# Altium schematic symbol library VLS6045EX-6R8M.SchLib: 1 symbol
Pins are listed as number, name and electrical type; pins without a type are passive.

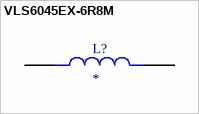
[diagram p0: symbol VLS6045EX-6R8M]

## VLS6045EX-6R8M
designator L?
Inductor Power Shielded Wirewound 6.8uH 20% 100KHz Ferrite 3.6A 0.0468Ohm DCR 2424 T/R; Manufacturer Lifecycle Status: PRODUCTION; MF: TDK; MP: VLS6045EX-6R8M; Current Rating: 4.7A; DC Resistance (DCR): 47mΩ; Number of Circuits: 1; Shielding: Yes; SnapEDA_Link: https://www.snapeda.com/parts/VLS6045EX-6R8M/TDK/view-part/?ref=snap; Package: NON STANDARD-2 TDK; Value: *; Check_prices: https://www.snapeda.com/parts/VLS6045EX-6R8M/TDK/view-part/?ref=eda; Supplier: DigiKey; Supplier Part Number: 445-173057-1-ND; Manufacturer: TDK; Manufacturer Part Number: VLS6045EX-6R8M; RoHS: Compliant; Category: Fixed Inductors; Stock: 199761; Pricing: 1=0,34, 10=0,284, 100=0,2333 (USD); Case/Package: 2424; Composition: Wirewound; Core Material: Ferrite; Height: 4.5mm; Height - Seated (Max): 4.4958mm; Inductance Tolerance: 20%; Length: 6mm; Lifecycle Status: Production; Max Current Rating: 3.6A; Max Length: 6.3mm; Max Operating Temperature: 105°C; Max Width: 6.3mm; Min Length: 5.7mm; Min Operating Temperature: -40°C; Min Width: 5.7mm; Mounting Technology: Surface Mount; Number of Terminals: 2; REACH SVHC: Yes; RMS Current (Irms): 3.6A; Saturation Current: 4.7A; Schedule B: 8504500000, 8504500000|8504500000, 8504500000|8504500000|8504500000, 8504500000|8504500000|8504500000|8504500000; Test Frequency: 100kHz; Tolerance: 20%; Width: 6mm; ComponentLink1URL: https://datasheet.octopart.com:443/VLS6045EX-6R8M-TDK-datasheet-181269184.pdf?src-supplier=IHS; ComponentLink1Description: https://datasheet.octopart.com:443/VLS6045EX-6R8M-TDK-datasheet-181269184.pdf?src-supplier=IHS; ComponentLink2URL: https://datasheet.octopart.com:443/VLS6045EX-6R8M-TDK-datasheet-153842173.pdf?src-supplier=ODG+(Origin+Data+Global); ComponentLink2Description: https://datasheet.octopart.com:443/VLS6045EX-6R8M-TDK-datasheet-153842173.pdf?src-supplier=ODG+(Origin+Data+Global); ComponentLink3URL: https://datasheet.octopart.com:443/VLS6045EX-6R8M-TDK-datasheet-82987839.pdf?src-supplier=Newark; ComponentLink3Description: https://datasheet.octopart.com:443/VLS6045EX-6R8M-TDK-datasheet-82987839.pdf?src-supplier=Newark; ComponentLink4URL: https://datasheet.octopart.com:443/VLS6045EX-6R8M-TDK-datasheet-41475571.pdf?src-supplier=Newark; ComponentLink4Description: https://datasheet.octopart.com:443/VLS6045EX-6R8M-TDK-datasheet-41475571.pdf?src-supplier=Newark; ComponentLink5URL: https://datasheet.octopart.com:443/VLS6045EX-6R8M-TDK-datasheet-60278255.pdf?src-supplier=Future+Electronics; ComponentLink5Description: https://datasheet.octopart.com:443/VLS6045EX-6R8M-TDK-datasheet-60278255.pdf?src-supplier=Future+Electronics; Supplier 1: DigiKey; Supplier Part Number 1: 445-173057-1-ND
footprint IND_VLS6045EX-6R8M
pins: 1, 2